# Altium schematic symbol library Current Sensor - MCS1801GS-12-Z.SchLib: 2 symbols
Pins are listed as number, name and electrical type; pins without a type are passive.

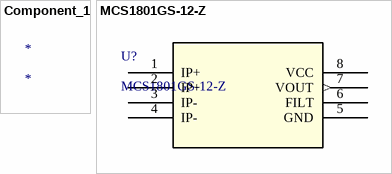
[diagram p0: symbols Component_1 to MCS1801GS-12-Z]

## Component_1
designator *

## MCS1801GS-12-Z
designator U?
No Description Available; Mfr_Name: Monolithic Power Systems; Copyright: Copyright (C) 2022 Ultra Librarian. All rights reserved.; Manufacturer_Part_Number: MCS1801GS-12-Z; Digi-Key_Part_Number_1: 1589-MCS1801GS-12-ZTR-ND; Digi-Key_Part_Number_2: 1589-MCS1801GS-12-ZCT-ND; Digi-Key_Part_Number_3: 1589-MCS1801GS-12-ZDKR-ND; RefDes: RefDes; Type: DEV
footprint SOIC-8_MNP
pins: 1 IP+, 2 IP+, 3 IP-, 4 IP-, 5 GND, 6 FILT, 7 VOUT (out), 8 VCC (power)